# Altium footprint library Mechanical.PcbLib: 6 footprints
Each footprint in its own frame and in the unit in brackets; x right, y up, seen from the top. Pads: shape width x height; smd on the part's side, far side on the other; paste and mask are expansions set on the pad; w line width, h text height; cw(c..) or ccw(c..) is an arc to the next point about the centre after c.
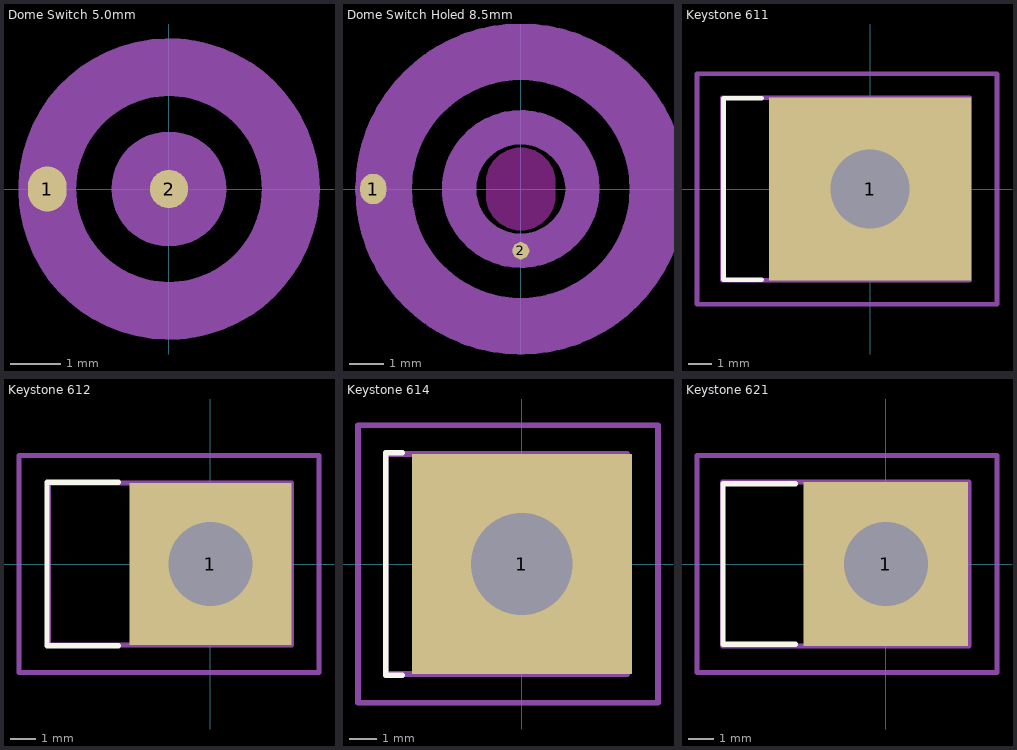
[diagram p0: the footprints below, top view; thin cyan lines are the x and y axes]

## Dome Switch 5.0mm [mil] "5.0mm singular dome switch with Carbon Printing"
pads (3):
  oval 30x35 smd paste-39.37: 1(-95,0)
  round 30 smd paste-39.37 mask+4: 2(0,0)
  round 90 on Mech14: ""(0,0)
Graphite:
  circle w45: c0,0 r95
Mechanical 15:
  circle w1: c0,0 r117.06

## Dome Switch Holed 8.5mm [mm] "8.5mm singular dome switch with carbon printing and hole"
pads (2):
  oval 0.762x0.889 smd: 1(-4.3,0)
  round 0.5 smd: 2(0,-1.8)
Keep-Out Layer:
  board cut-out: -1,-0.2 -1,-0.332 -0.932,-0.586 -0.8,-0.814 -0.614,-1 -0.386,-1.132 -0.132,-1.2 0.132,-1.2 0.386,-1.132 0.614,-1 0.8,-0.814 0.932,-0.586 1,-0.332 1,-0.2 1,0.2 1,0.332 0.932,0.586 0.8,0.814 0.614,1 0.386,1.132 0.132,1.2 -0.132,1.2 -0.386,1.132 -0.614,1 -0.8,0.814 -0.932,0.586 -1,0.332 -1,0.2
Graphite:
  circle w1: c0,0 r1.8
  circle w1.65: c0,0 r4

## Keystone 611 [mm]
height 9.52
pads (1):
  rect 8.74x7.92 hole 3.43: 1(0,0)
Top Overlay:
  lines w0.2: -4.699,-3.937 -6.35,-3.937 -6.35,3.937 -4.699,3.937
Mechanical 1:
  lines w0.2: -6.402,-3.96 -6.402,3.96 4.318,3.96 4.318,-3.96 -6.402,-3.96
Mechanical 15:
  lines w0.2: -1,0 1,0 ; 0,-1 0,1 ; -7.5,-5 5.5,-5 5.5,5 -7.5,5 -7.5,-5
3D body "Keystone 611.STEP": height 9.52, standoff 0, extent -6.402,-3.96 4.318,3.96

## Keystone 612 [mm]
height 8.71
pads (1):
  rect 6.35x6.35 hole 3.3: 1(0,0)
Top Overlay:
  lines w0.2: -3.6,-3.2 -6.4,-3.2 -6.4,3.2 -3.6,3.2
Mechanical 1:
  lines w0.2: -6.35,-3.175 -6.35,3.175 3.18,3.175 3.18,-3.175 -6.35,-3.175
Mechanical 15:
  lines w0.2: -1,0 1,0 ; 0,-1 0,1 ; -7.5,-4.25 -7.5,4.25 4.25,4.25 4.25,-4.25 -7.5,-4.25
3D body "Keystone 612.STEP": height 8.71, standoff 0, extent -6.35,-3.175 3.18,3.175

## Keystone 614 [mm]
height 10.67
pads (1):
  rect 7.92x7.92 hole 3.66: 1(0,0)
Top Overlay:
  lines w0.2: -4.3,-4 -4.9,-4 -4.9,4 -4.3,4
Mechanical 1:
  lines w0.2: -4.9,-3.96 3.8,-3.96 3.8,3.96 -4.9,3.96 -4.9,-3.96
Mechanical 15:
  lines w0.2: -1,0 1,0 ; 0,-1 0,1 ; -5.9,-5 -5.9,5 4.9,5 4.9,-5 -5.9,-5
3D body "Keystone 614.STEP": height 10.66, standoff 0, extent -4.93,-3.96 3.774,3.96

## Keystone 621 [mm]
height 8.71
pads (1):
  rect 6.35x6.35 hole 3.25: 1(0,0)
Top Overlay:
  lines w0.2: -3.5,-3.1 -6.3,-3.1 -6.3,3.1 -3.5,3.1
Mechanical 1:
  lines w0.2: -6.3,-3.175 -6.312,-3.175 ; -6.312,-3.175 3.218,-3.175 3.218,3.175 -6.312,3.175 -6.312,-3.175
Mechanical 15:
  lines w0.2: -1,0 1,0 ; 0,-1 0,1 ; -7.3,-4.2 -7.3,4.2 4.3,4.2 4.3,-4.2 -7.3,-4.2
3D body "Keystone 621.STEP": height 8.71, standoff 0, extent -6.312,-3.175 3.218,3.175